# Altium schematic symbol library SCH - POWER - SWITCHMODE - TI TPS54A20RNJ.SchLib: 1 symbol
Pins are listed as number, name and electrical type; pins without a type are passive.

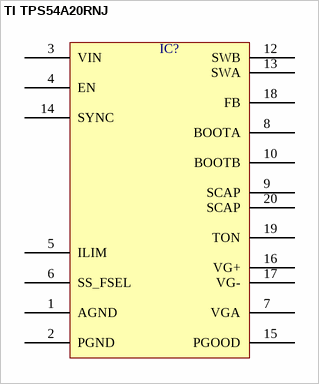
[diagram p0: symbol TI TPS54A20RNJ]

## TI TPS54A20RNJ
designator IC?  (value not drawn)
pins: 1 AGND, 2 PGND, 3 VIN, 4 EN, 5 ILIM, 6 SS_FSEL, 7 VGA, 8 BOOTA, 9 SCAP, 10 BOOTB, 12 SWB, 13 SWA, 14 SYNC, 15 PGOOD, 16 VG+, 17 VG-, 18 FB, 19 TON, 20 SCAP